# EAGLE library part NYS216-U (library jacks)
https://www.mouser.ca/ProductDetail/REAN/NYS216-U Stereo (TRS) 1/4" Jack
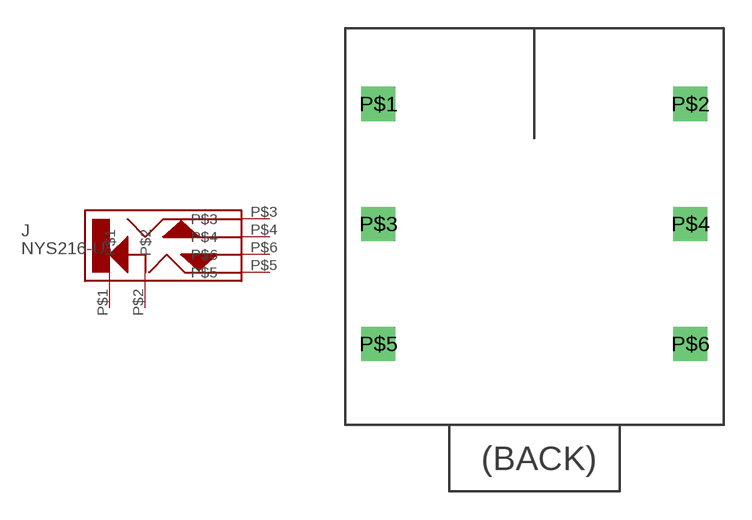
[diagram p0: symbol with the pads of NYS216-U; footprint NYS216-U]

Designator prefix J

## NYS216-U  [NYS216-U]
P$1  P$1
P$2  P$2
P$3  P$3
P$4  P$4
P$5  P$5
P$6  P$6

## Footprint NYS216-U (pad centres in mm)
drill 1.2 square: P$1 0,0; P$2 16.5,0; P$3 0,-6.35; P$4 16.5,-6.35; P$5 0,-12.7; P$6 16.5,-12.7